# Altium footprint library L_1uH.PcbLib: 1 footprints
Each footprint in its own frame and in the unit in brackets; x right, y up, seen from the top. Pads: shape width x height; smd on the part's side, far side on the other; paste and mask are expansions set on the pad; w line width, h text height; cw(c..) or ccw(c..) is an arc to the next point about the centre after c.
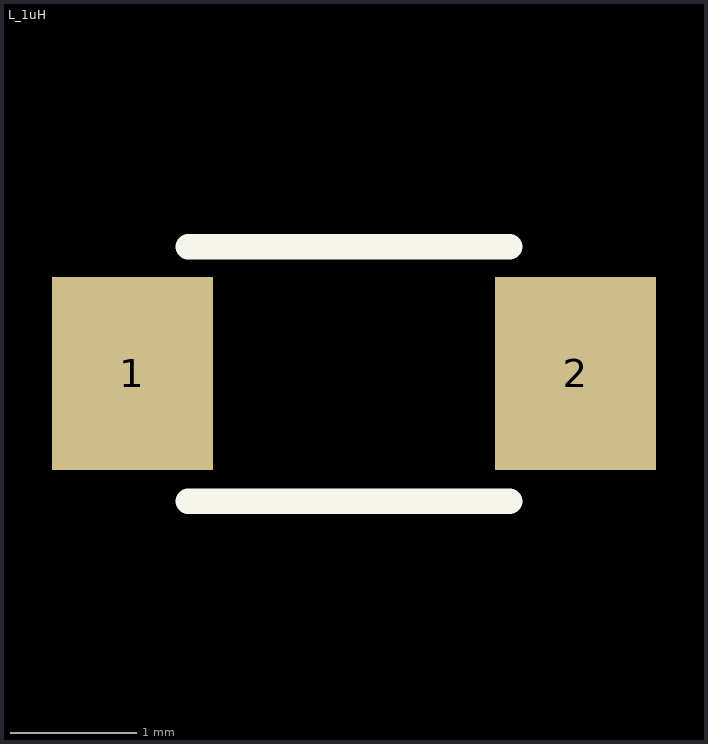
[diagram p0: the footprint, top view; thin cyan lines are the x and y axes]

## L_1uH [mil]
pads (2):
  rect 50x60 smd: 1(455,170) 2(592.79,170)
Top Overlay:
  lines w7.87: 472.32,130.24 572.32,130.24 ; 472.32,209.37 572.32,209.37